# EAGLE library part A2200-A (library lib)
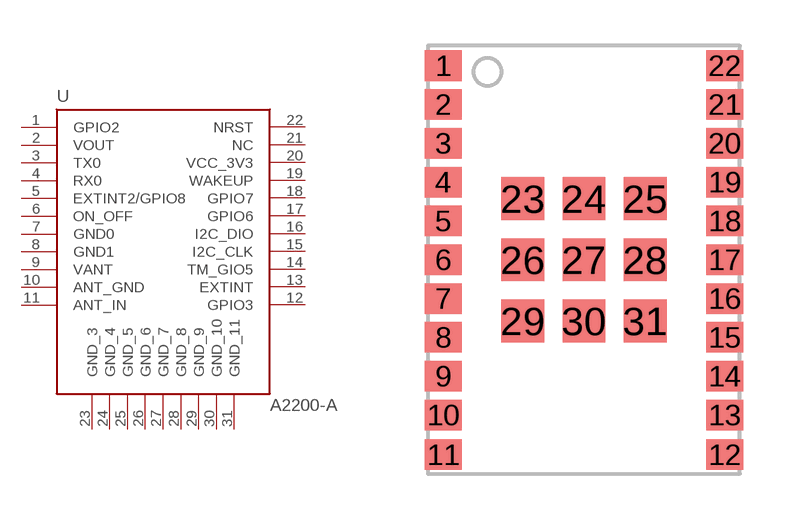
[diagram p0: symbol with the pads of A2200-A; footprint A2200-A]

Designator prefix -

## A2200-A  [A2200-A]
1  GPIO2
2  VOUT
3  TX0
4  RX0
5  EXTINT2/GPIO8
6  ON_OFF
7  GND0  pwr
8  GND1  pwr
9  VANT
10  ANT_GND
11  ANT_IN
12  GPIO3
13  EXTINT
14  TM_GIO5
15  I2C_CLK
16  I2C_DIO
17  GPIO6
18  GPIO7
19  WAKEUP
20  VCC_3V3  pwr
21  NC
22  NRST
23  GND_3
24  GND_4
25  GND_5
26  GND_6
27  GND_7
28  GND_8
29  GND_9
30  GND_10
31  GND_11

## Footprint A2200-A (pad centres in mm)
smd 1.2 x 1: 1 0.5,13.35; 2 0.5,12.08; 3 0.5,10.81; 4 0.5,9.54; 5 0.5,8.27; 6 0.5,7; 7 0.5,5.73; 8 0.5,4.46; 9 0.5,3.19; 10 0.5,1.92; 11 0.5,0.62; 12 9.7,0.62; 13 9.7,1.92; 14 9.7,3.19; 15 9.7,4.46; 16 9.7,5.73; 17 9.7,7; 18 9.7,8.27; 19 9.7,9.54; 20 9.7,10.81; 21 9.7,12.08; 22 9.7,13.35
smd 1.4 x 1.4: 23 3.1,9; 24 5.1,9; 25 7.1,9; 26 3.1,7; 27 5.1,7; 28 7.1,7; 29 3.1,5; 30 5.1,5; 31 7.1,5